# Altium schematic symbol library Schlib1.SchLib: 4 symbols
Pins are listed as number, name and electrical type; pins without a type are passive.

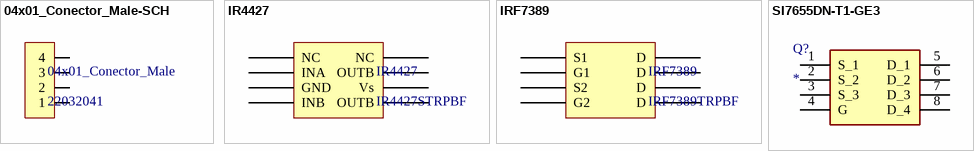
[diagram p0: symbols 04x01_Conector_Male-SCH to SI7655DN-T1-GE3]

## 04x01_Conector_Male-SCH
designator 04x01_Conector_Male, comment 22032041
CONN HEADER 4POS .100 VERT TIN
footprint 04x01_Conector_Male (0022032041)
pins: 1, 2, 3, 4

## IR4427
designator IR4427, comment IR4427STRPBF
IC DRIVER DUAL LOW SIDE 8-DIP
footprint IR4427-PCB (SOIC, 8-Leads, Body 4,85x3,90mm, Pitch 1,27mm, IPC Medium Density)
pins: 1 NC, 2 INA, 3 GND, 4 INB, 5 OUTB, 6 Vs, 7 OUTB, 8 NC

## IRF7389
designator IRF7389, comment IRF7389TRPBF
MOSFET N/P-CH 30V 8-SOIC
footprint IRF7389-PCB (SOIC, 8-Leads, Body 4,85x3,90mm, Pitch 1,27mm, IPC Medium Density)
pins: 1 S1, 2 G1, 3 S2, 4 G2, 5 D, 6 D, 7 D, 8 D

## SI7655DN-T1-GE3
designator Q?
MOSFET (P-Channel); Manufacturer_Name: Vishay; Manufacturer_Part_Number: SI7655DN-T1-GE3; Datasheet Link: https://www.vishay.com/docs/63617/si7655dn.pdf; Mouser Part Number: 78-SI7655DN-T1-GE3; Mouser Price/Stock: https://www.mouser.co.uk/ProductDetail/Vishay-Semiconductors/SI7655DN-T1-GE3?qs=8YL4b%2FT9KqrUzqvG%2FOmMqw%3D%3D; Arrow Part Number: SI7655DN-T1-GE3; Arrow Price/Stock: https://www.arrow.com/en/products/si7655dn-t1-ge3/vishay
footprint POWERPAK-1212-8
pins: 1 S_1, 2 S_2, 3 S_3, 4 G, 5 D_1, 6 D_2, 7 D_3, 8 D_4